# EAGLE library part HA5351IBZ (library Intersil_By_element14_Batch_1)
64ns Sample and Hold Amplifier
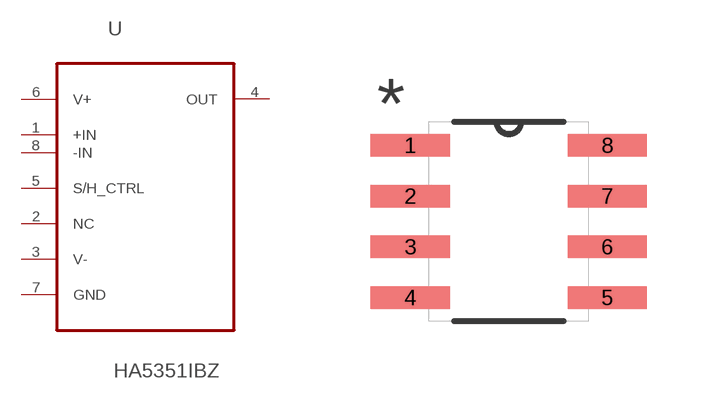
[diagram p97: symbol with the pads of SOIC127P600X175-8N; footprint SOIC127P600X175-8N]

Designator prefix U

## HA5351IBZ (MPN: HA5351IBZ; OC_FARNELL: -; OC_NEWARK: 05M7378; PACKAGE: SOIC-8; SUPPLIER: INTERSIL)  [SOIC127P600X175-8N]
1  +IN  in
2  NC  nc
3  V-  in
4  OUT  out
5  S/H_CTRL  in
6  V+  in
7  GND  pas
8  -IN  in

## Footprint SOIC127P600X175-8N (pad centres in mm)
smd 1.981 x 0.559: 1 -2.464,1.905; 2 -2.464,0.635; 3 -2.464,-0.635; 4 -2.464,-1.905; 5 2.464,-1.905; 6 2.464,-0.635; 7 2.464,0.635; 8 2.464,1.905